# Altium footprint library KLS1-4.20-2X04.PcbLib: 1 footprints
Each footprint in its own frame and in the unit in brackets; x right, y up, seen from the top. Pads: shape width x height; smd on the part's side, far side on the other; paste and mask are expansions set on the pad; w line width, h text height; cw(c..) or ccw(c..) is an arc to the next point about the centre after c.
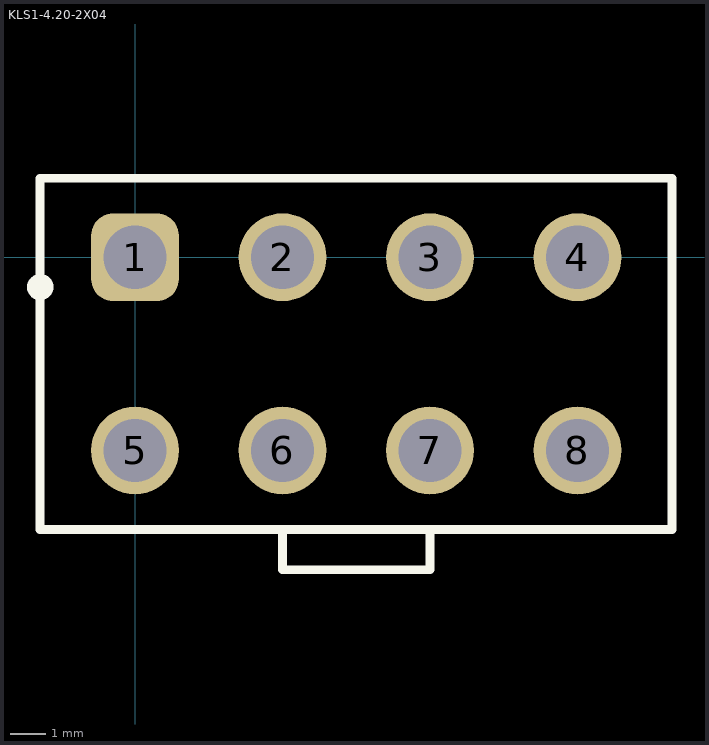
[diagram p0: the footprint, top view; thin cyan lines are the x and y axes]

## KLS1-4.20-2X04 [mm]
pads (8):
  rrect50% 2.5x2.5 hole 1.8: 1(0,0)
  round 2.5 hole 1.8: 2(4.2,0) 3(8.4,0) 4(12.6,0) 5(0,-5.5) 6(4.2,-5.5) 7(8.4,-5.5) 8(12.6,-5.5)
Top Overlay:
  circle w0.5: c-2.7,-0.85 r0.125
  lines w0.254: 4.2,-7.8 4.2,-8.9 8.4,-8.9 8.4,-7.8 ; -2.7,-7.75 15.3,-7.75 15.3,2.25 -2.7,2.25 -2.7,-7.75
3D body "KLS1-4.20-2x04.step": height 12.8, standoff -3.4, extent -3.1,-8.9 15.3,2.1